# EAGLE library part CPC-ACID (library 8Bit_Parts)
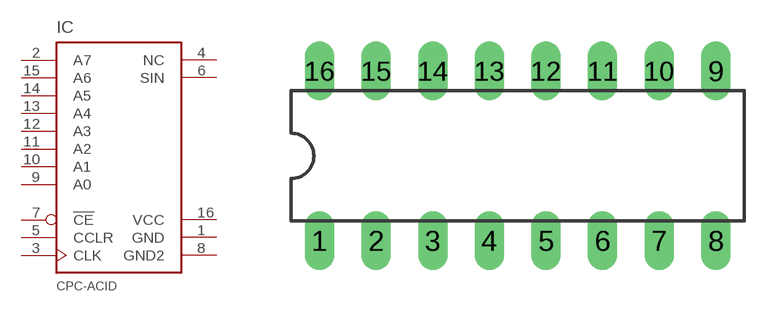
[diagram p3: symbol with the pads of DIL16; footprint DIL16]

Designator prefix IC

## CPC-ACID  [DIL16]
1  GND  pwr
2  A7  in
3  CLK  in
4  NC  nc
5  CCLR  in
6  SIN  out
7  !CE  in
8  GND2  pwr
9  A0  in
10  A1  in
11  A2  in
12  A3  in
13  A4  in
14  A5  in
15  A6  in
16  VCC  pwr

## Footprint DIL16 (pad centres in mm)
Dual In Line Package
drill 0.813 long: 1 -8.89,-3.81; 2 -6.35,-3.81; 3 -3.81,-3.81; 4 -1.27,-3.81; 5 1.27,-3.81; 6 3.81,-3.81; 7 6.35,-3.81; 8 8.89,-3.81; 9 8.89,3.81; 10 6.35,3.81; 11 3.81,3.81; 12 1.27,3.81; 13 -1.27,3.81; 14 -3.81,3.81; 15 -6.35,3.81; 16 -8.89,3.81